# Altium footprint library TransistorThyristor_PTH.PcbLib: 3 footprints
Each footprint in its own frame and in the unit in brackets; x right, y up, seen from the top. Pads: shape width x height; smd on the part's side, far side on the other; paste and mask are expansions set on the pad; w line width, h text height; cw(c..) or ccw(c..) is an arc to the next point about the centre after c.
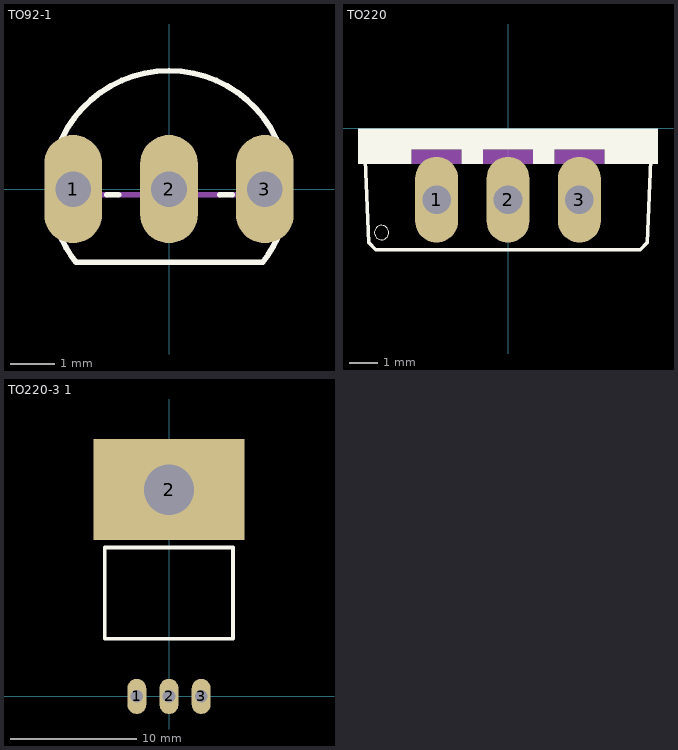
[diagram p0: the footprints below, top view; thin cyan lines are the x and y axes]

## TO92-1 [mm]
pads (3):
  oval 1.3x2.438 hole 0.8: 1(-2.159,0) 2(0,0) 3(2.159,0)
Top Overlay:
  lines w0.127: -2.413,-1.136 ccw(c-0.001,0) -2.095,-1.651 2.108,-1.651 ccw(c0.014,0.002) 2.438,-1.112 ; -2.413,1.136 cw(c0,0) 2.413,1.136 ; -1.404,-0.127 -1.136,-0.127 ; 1.143,-0.127 1.422,-0.127
Mechanical 16:
  lines w0.127: -2.664,-0.127 -1.404,-0.127 ; -2.413,-1.136 cw(c0,0) -2.413,1.136 ; -1.136,-0.127 1.143,-0.127 ; 1.422,-0.127 2.667,-0.127 ; 2.413,-1.136 ccw(c0,0) 2.413,1.136
3D body "User Library-TO92.step": height 8.51, standoff -2.79, extent -2.765,-1.55 2.765,2.55

## TO220 [mil]
pads (3):
  oval 60x120 hole 40: 1(-100,-100) 2(0,-100) 3(100,-100)
Top Overlay:
  circle w0: c-177,-146 r10
  rectangle: -210,-30 210,0
  rectangle: -210,-50 -135,-30
  rectangle: -65,-50 -35,-30
  rectangle: 35,-50 65,-30
  rectangle: 135,-50 210,-30
  lines w5: -200,-45 -195,-160 -185,-170 185,-170 195,-160 200,-45
Mechanical 16:
  rectangle: -135,-50 -65,-30
  rectangle: -35,-50 35,-30
  rectangle: 65,-50 135,-30
  text "1" at -125,-125 h77.5
  text "2" at -25,-125 h77.5
  text "3" at 75,-125 h77.5

## TO220-3 1 [mm]
pads (4):
  oval 1.5x2.79 hole 1: 1(-2.55,0) 2(0,0) 3(2.55,0)
  rect 12x8 hole 4: 2(0,16.383)
Top Overlay:
  lines w0.3: -5.09,4.572 5.07,4.572 5.07,11.811 -5.09,11.811 -5.09,4.572
3D body "MOSFET TO-220-DEFAULT.SLDPRT": height 4.3, standoff -2.9, extent -5.08,0 5.08,19.49